# Altium schematic symbol library Misc.SchLib: 6 symbols
Pins are listed as number, name and electrical type; pins without a type are passive.

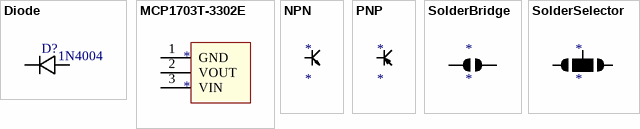
[diagram p0: symbols Diode to SolderSelector]

## Diode
designator D?  Type: 1N4004
footprint Axial-0.4" (Axial 0.4")
pins: 0, 1

## MCP1703T-3302E
designator *
footprint SOT-23A
pins: 1 GND (power), 2 VOUT (power), 3 VIN (power)

## NPN
designator *
pins: B, C, E

## PNP
designator *
pins: B, C, E

## SolderBridge
designator *
footprint SolderBridge
pins: 0, 1

## SolderSelector
designator *
footprint SolderSelector
pins: 0, 1, 2